# Altium integrated library MolexMicroFit3_4POS_2ROW_RA.IntLib: 1 symbol
Pins are listed as number, name and electrical type; pins without a type are passive.

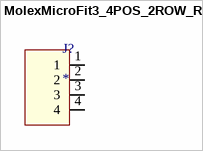
[diagram p0: symbol MolexMicroFit3_4POS_2ROW_RA]

## MolexMicroFit3_4POS_2ROW_RA
designator J?
footprint MolexMicroFit3_4POS_2ROW_RA
pins: 1, 2, 3, 4